# Altium schematic symbol library KLS1-TF-003.SchLib: 1 symbol
Pins are listed as number, name and electrical type; pins without a type are passive.

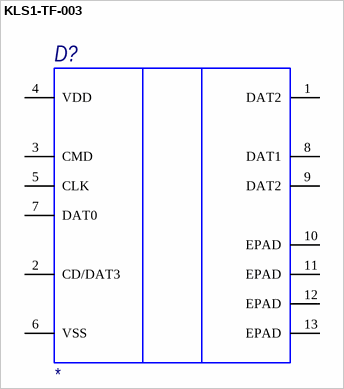
[diagram p0: symbol KLS1-TF-003]

## KLS1-TF-003
designator D?
Value: *
pins: 1 DAT2, 2 CD/DAT3, 3 CMD, 4 VDD, 5 CLK, 6 VSS, 7 DAT0, 8 DAT1, 9 DAT2, 10 EPAD, 11 EPAD, 12 EPAD, 13 EPAD